# Altium footprint library Discrete_Passive.PcbLib: 311 footprints (part 4 of 20)
Each footprint in its own frame and in the unit in brackets; x right, y up, seen from the top. Pads: shape width x height; smd on the part's side, far side on the other; paste and mask are expansions set on the pad; w line width, h text height; cw(c..) or ccw(c..) is an arc to the next point about the centre after c.
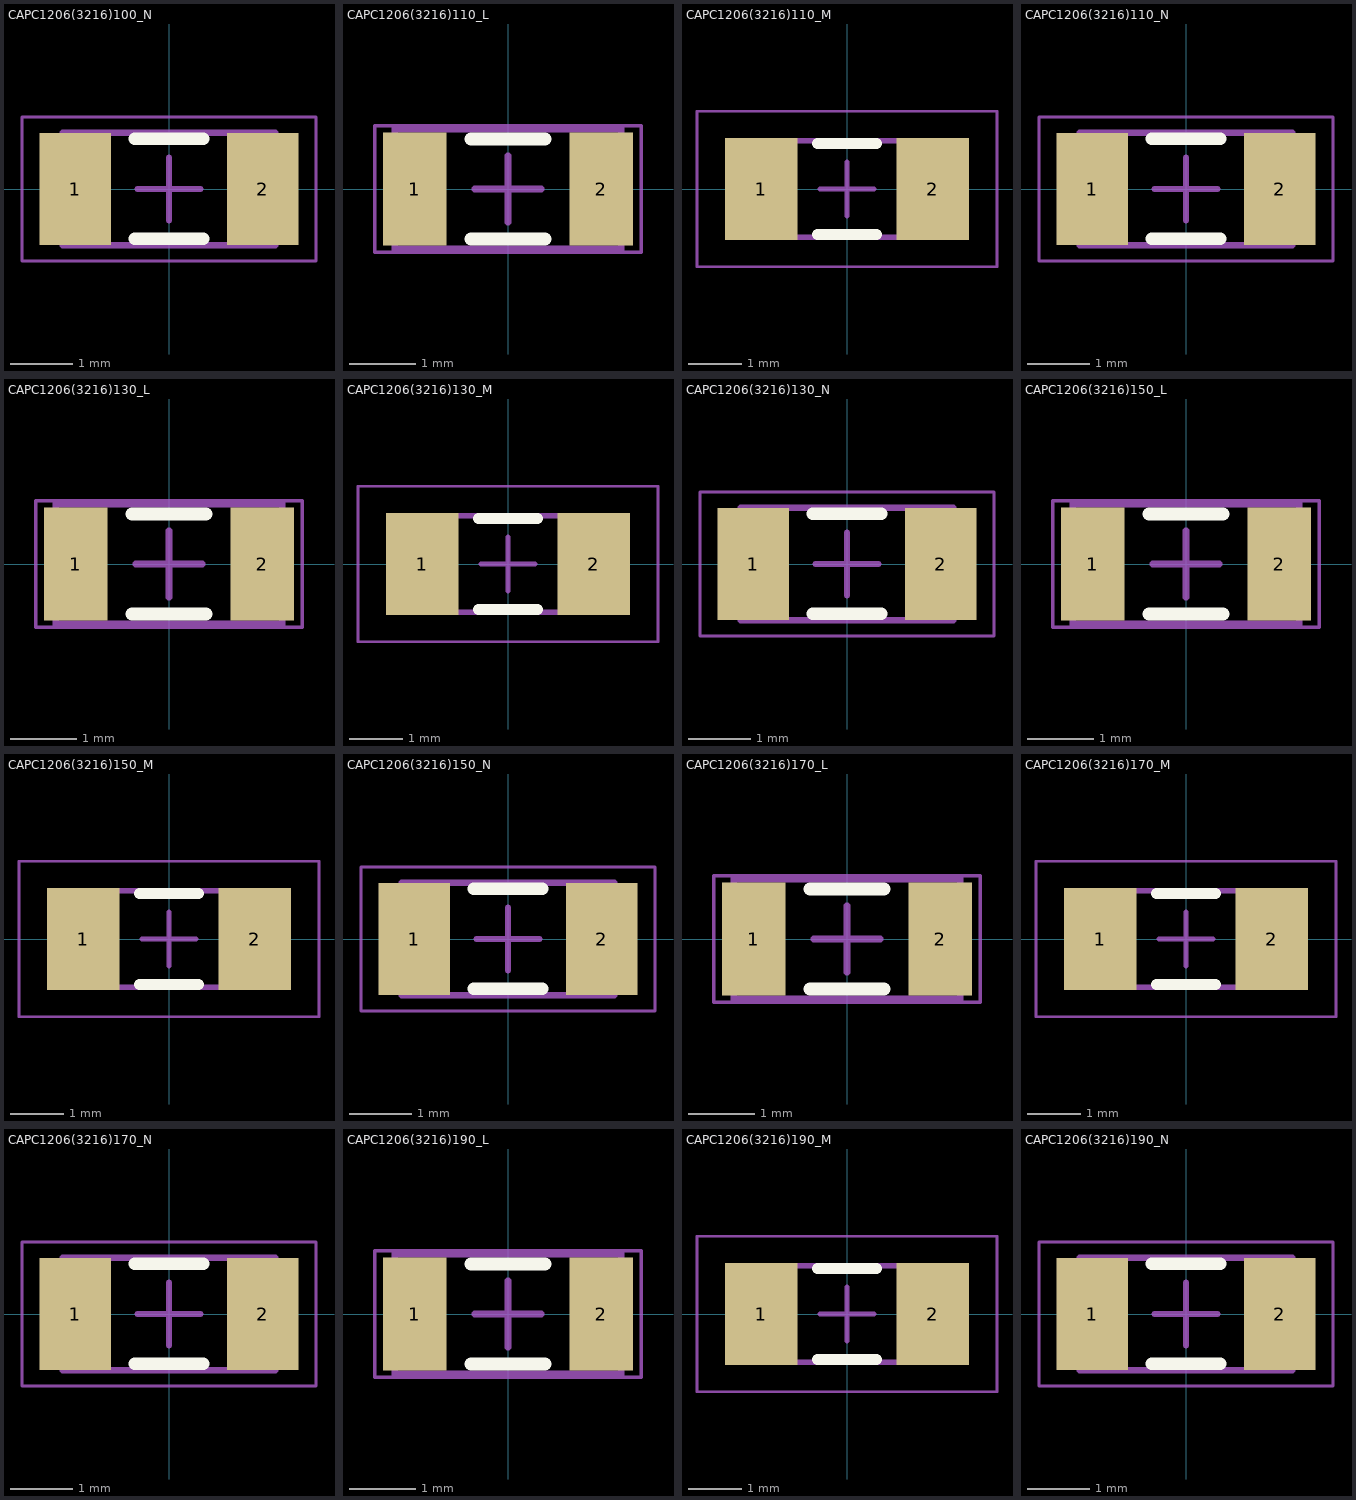
[diagram p3: the footprints below, top view; thin cyan lines are the x and y axes]

## CAPC1206(3216)100_N [mm] "Chip Capacitor, Body 3.2x1.6mm, Height 1mm, IPC Medium Density"
height 1
pads (2):
  rect 1.15x1.8 smd: 1(-1.5,0) 2(1.5,0)
Top Overlay:
  lines w0.2: -0.55,-0.8 0.55,-0.8 ; -0.55,0.8 0.55,0.8
Mechanical 13:
  lines w0.1: -1.7,-0.9 1.7,-0.9 1.7,0.9 -1.7,0.9 -1.7,-0.9
Mechanical 15:
  lines w0.05: -2.35,-1.15 2.35,-1.15 2.35,1.15 -2.35,1.15 -2.35,-1.15
  lines w0.1: -0.5,0 0.5,0 ; 0,-0.5 0,0.5
3D body: height 1, standoff 0, extent 1.2,-0.9 1.7,0.9
3D body: height 1, standoff 0, extent -1.7,-0.9 -1.2,0.9
3D body: height 1, standoff 0, extent -1.2,-0.9 1.2,0.9

## CAPC1206(3216)110_L [mm] "Chip Capacitor, Body 3.2x1.6mm, Height 1.1mm, IPC High Density"
height 1.1
pads (2):
  rect 0.95x1.7 smd: 1(-1.4,0) 2(1.4,0)
Top Overlay:
  lines w0.2: -0.55,-0.75 0.55,-0.75 ; -0.55,0.75 0.55,0.75
Mechanical 13:
  lines w0.1: -1.7,-0.9 1.7,-0.9 1.7,0.9 -1.7,0.9 -1.7,-0.9
Mechanical 15:
  lines w0.05: -2,-0.95 2,-0.95 2,0.95 -2,0.95 -2,-0.95
  lines w0.1: -0.5,0 0.5,0 ; 0,-0.5 0,0.5
3D body: height 1.1, standoff 0, extent 1.2,-0.9 1.7,0.9
3D body: height 1.1, standoff 0, extent -1.7,-0.9 -1.2,0.9
3D body: height 1.1, standoff 0, extent -1.2,-0.9 1.2,0.9

## CAPC1206(3216)110_M [mm] "Chip Capacitor, Body 3.2x1.6mm, Height 1.1mm, IPC Low Density"
height 1.1
pads (2):
  rect 1.35x1.9 smd: 1(-1.6,0) 2(1.6,0)
Top Overlay:
  lines w0.2: -0.55,-0.85 0.55,-0.85 ; -0.55,0.85 0.55,0.85
Mechanical 13:
  lines w0.1: -1.7,-0.9 1.7,-0.9 1.7,0.9 -1.7,0.9 -1.7,-0.9
Mechanical 15:
  lines w0.05: -2.8,-1.45 2.8,-1.45 2.8,1.45 -2.8,1.45 -2.8,-1.45
  lines w0.1: -0.5,0 0.5,0 ; 0,-0.5 0,0.5
3D body: height 1.1, standoff 0, extent 1.2,-0.9 1.7,0.9
3D body: height 1.1, standoff 0, extent -1.7,-0.9 -1.2,0.9
3D body: height 1.1, standoff 0, extent -1.2,-0.9 1.2,0.9

## CAPC1206(3216)110_N [mm] "Chip Capacitor, Body 3.2x1.6mm, Height 1.1mm, IPC Medium Density"
height 1.1
pads (2):
  rect 1.15x1.8 smd: 1(-1.5,0) 2(1.5,0)
Top Overlay:
  lines w0.2: -0.55,-0.8 0.55,-0.8 ; -0.55,0.8 0.55,0.8
Mechanical 13:
  lines w0.1: -1.7,-0.9 1.7,-0.9 1.7,0.9 -1.7,0.9 -1.7,-0.9
Mechanical 15:
  lines w0.05: -2.35,-1.15 2.35,-1.15 2.35,1.15 -2.35,1.15 -2.35,-1.15
  lines w0.1: -0.5,0 0.5,0 ; 0,-0.5 0,0.5
3D body: height 1.1, standoff 0, extent 1.2,-0.9 1.7,0.9
3D body: height 1.1, standoff 0, extent -1.7,-0.9 -1.2,0.9
3D body: height 1.1, standoff 0, extent -1.2,-0.9 1.2,0.9

## CAPC1206(3216)130_L [mm] "Chip Capacitor, Body 3.2x1.6mm, Height 1.3mm, IPC High Density"
height 1.3
pads (2):
  rect 0.95x1.7 smd: 1(-1.4,0) 2(1.4,0)
Top Overlay:
  lines w0.2: -0.55,-0.75 0.55,-0.75 ; -0.55,0.75 0.55,0.75
Mechanical 13:
  lines w0.1: -1.7,-0.9 1.7,-0.9 1.7,0.9 -1.7,0.9 -1.7,-0.9
Mechanical 15:
  lines w0.05: -2,-0.95 2,-0.95 2,0.95 -2,0.95 -2,-0.95
  lines w0.1: -0.5,0 0.5,0 ; 0,-0.5 0,0.5
3D body: height 1.3, standoff 0, extent 1.2,-0.9 1.7,0.9
3D body: height 1.3, standoff 0, extent -1.7,-0.9 -1.2,0.9
3D body: height 1.3, standoff 0, extent -1.2,-0.9 1.2,0.9

## CAPC1206(3216)130_M [mm] "Chip Capacitor, Body 3.2x1.6mm, Height 1.3mm, IPC Low Density"
height 1.3
pads (2):
  rect 1.35x1.9 smd: 1(-1.6,0) 2(1.6,0)
Top Overlay:
  lines w0.2: -0.55,-0.85 0.55,-0.85 ; -0.55,0.85 0.55,0.85
Mechanical 13:
  lines w0.1: -1.7,-0.9 1.7,-0.9 1.7,0.9 -1.7,0.9 -1.7,-0.9
Mechanical 15:
  lines w0.05: -2.8,-1.45 2.8,-1.45 2.8,1.45 -2.8,1.45 -2.8,-1.45
  lines w0.1: -0.5,0 0.5,0 ; 0,-0.5 0,0.5
3D body: height 1.3, standoff 0, extent 1.2,-0.9 1.7,0.9
3D body: height 1.3, standoff 0, extent -1.7,-0.9 -1.2,0.9
3D body: height 1.3, standoff 0, extent -1.2,-0.9 1.2,0.9

## CAPC1206(3216)130_N [mm] "Chip Capacitor, Body 3.2x1.6mm, Height 1.3mm, IPC Medium Density"
height 1.3
pads (2):
  rect 1.15x1.8 smd: 1(-1.5,0) 2(1.5,0)
Top Overlay:
  lines w0.2: -0.55,-0.8 0.55,-0.8 ; -0.55,0.8 0.55,0.8
Mechanical 13:
  lines w0.1: -1.7,-0.9 1.7,-0.9 1.7,0.9 -1.7,0.9 -1.7,-0.9
Mechanical 15:
  lines w0.05: -2.35,-1.15 2.35,-1.15 2.35,1.15 -2.35,1.15 -2.35,-1.15
  lines w0.1: -0.5,0 0.5,0 ; 0,-0.5 0,0.5
3D body: height 1.3, standoff 0, extent 1.2,-0.9 1.7,0.9
3D body: height 1.3, standoff 0, extent -1.7,-0.9 -1.2,0.9
3D body: height 1.3, standoff 0, extent -1.2,-0.9 1.2,0.9

## CAPC1206(3216)150_L [mm] "Chip Capacitor, Body 3.2x1.6mm, Height 1.5mm, IPC High Density"
height 1.5
pads (2):
  rect 0.95x1.7 smd: 1(-1.4,0) 2(1.4,0)
Top Overlay:
  lines w0.2: -0.55,-0.75 0.55,-0.75 ; -0.55,0.75 0.55,0.75
Mechanical 13:
  lines w0.1: -1.7,-0.9 1.7,-0.9 1.7,0.9 -1.7,0.9 -1.7,-0.9
Mechanical 15:
  lines w0.05: -2,-0.95 2,-0.95 2,0.95 -2,0.95 -2,-0.95
  lines w0.1: -0.5,0 0.5,0 ; 0,-0.5 0,0.5
3D body: height 1.5, standoff 0, extent 1.2,-0.9 1.7,0.9
3D body: height 1.5, standoff 0, extent -1.7,-0.9 -1.2,0.9
3D body: height 1.5, standoff 0, extent -1.2,-0.9 1.2,0.9

## CAPC1206(3216)150_M [mm] "Chip Capacitor, Body 3.2x1.6mm, Height 1.5mm, IPC Low Density"
height 1.5
pads (2):
  rect 1.35x1.9 smd: 1(-1.6,0) 2(1.6,0)
Top Overlay:
  lines w0.2: -0.55,-0.85 0.55,-0.85 ; -0.55,0.85 0.55,0.85
Mechanical 13:
  lines w0.1: -1.7,-0.9 1.7,-0.9 1.7,0.9 -1.7,0.9 -1.7,-0.9
Mechanical 15:
  lines w0.05: -2.8,-1.45 2.8,-1.45 2.8,1.45 -2.8,1.45 -2.8,-1.45
  lines w0.1: -0.5,0 0.5,0 ; 0,-0.5 0,0.5
3D body: height 1.5, standoff 0, extent 1.2,-0.9 1.7,0.9
3D body: height 1.5, standoff 0, extent -1.7,-0.9 -1.2,0.9
3D body: height 1.5, standoff 0, extent -1.2,-0.9 1.2,0.9

## CAPC1206(3216)150_N [mm] "Chip Capacitor, Body 3.2x1.6mm, Height 1.5mm, IPC Medium Density"
height 1.5
pads (2):
  rect 1.15x1.8 smd: 1(-1.5,0) 2(1.5,0)
Top Overlay:
  lines w0.2: -0.55,-0.8 0.55,-0.8 ; -0.55,0.8 0.55,0.8
Mechanical 13:
  lines w0.1: -1.7,-0.9 1.7,-0.9 1.7,0.9 -1.7,0.9 -1.7,-0.9
Mechanical 15:
  lines w0.05: -2.35,-1.15 2.35,-1.15 2.35,1.15 -2.35,1.15 -2.35,-1.15
  lines w0.1: -0.5,0 0.5,0 ; 0,-0.5 0,0.5
3D body: height 1.5, standoff 0, extent 1.2,-0.9 1.7,0.9
3D body: height 1.5, standoff 0, extent -1.7,-0.9 -1.2,0.9
3D body: height 1.5, standoff 0, extent -1.2,-0.9 1.2,0.9

## CAPC1206(3216)170_L [mm] "Chip Capacitor, Body 3.2x1.6mm, Height 1.7mm, IPC High Density"
height 1.7
pads (2):
  rect 0.95x1.7 smd: 1(-1.4,0) 2(1.4,0)
Top Overlay:
  lines w0.2: -0.55,-0.75 0.55,-0.75 ; -0.55,0.75 0.55,0.75
Mechanical 13:
  lines w0.1: -1.7,-0.9 1.7,-0.9 1.7,0.9 -1.7,0.9 -1.7,-0.9
Mechanical 15:
  lines w0.05: -2,-0.95 2,-0.95 2,0.95 -2,0.95 -2,-0.95
  lines w0.1: -0.5,0 0.5,0 ; 0,-0.5 0,0.5
3D body: height 1.7, standoff 0, extent 1.2,-0.9 1.7,0.9
3D body: height 1.7, standoff 0, extent -1.7,-0.9 -1.2,0.9
3D body: height 1.7, standoff 0, extent -1.2,-0.9 1.2,0.9

## CAPC1206(3216)170_M [mm] "Chip Capacitor, Body 3.2x1.6mm, Height 1.7mm, IPC Low Density"
height 1.7
pads (2):
  rect 1.35x1.9 smd: 1(-1.6,0) 2(1.6,0)
Top Overlay:
  lines w0.2: -0.55,-0.85 0.55,-0.85 ; -0.55,0.85 0.55,0.85
Mechanical 13:
  lines w0.1: -1.7,-0.9 1.7,-0.9 1.7,0.9 -1.7,0.9 -1.7,-0.9
Mechanical 15:
  lines w0.05: -2.8,-1.45 2.8,-1.45 2.8,1.45 -2.8,1.45 -2.8,-1.45
  lines w0.1: -0.5,0 0.5,0 ; 0,-0.5 0,0.5
3D body: height 1.7, standoff 0, extent 1.2,-0.9 1.7,0.9
3D body: height 1.7, standoff 0, extent -1.7,-0.9 -1.2,0.9
3D body: height 1.7, standoff 0, extent -1.2,-0.9 1.2,0.9

## CAPC1206(3216)170_N [mm] "Chip Capacitor, Body 3.2x1.6mm, Height 1.7mm, IPC Medium Density"
height 1.7
pads (2):
  rect 1.15x1.8 smd: 1(-1.5,0) 2(1.5,0)
Top Overlay:
  lines w0.2: -0.55,-0.8 0.55,-0.8 ; -0.55,0.8 0.55,0.8
Mechanical 13:
  lines w0.1: -1.7,-0.9 1.7,-0.9 1.7,0.9 -1.7,0.9 -1.7,-0.9
Mechanical 15:
  lines w0.05: -2.35,-1.15 2.35,-1.15 2.35,1.15 -2.35,1.15 -2.35,-1.15
  lines w0.1: -0.5,0 0.5,0 ; 0,-0.5 0,0.5
3D body: height 1.7, standoff 0, extent 1.2,-0.9 1.7,0.9
3D body: height 1.7, standoff 0, extent -1.7,-0.9 -1.2,0.9
3D body: height 1.7, standoff 0, extent -1.2,-0.9 1.2,0.9

## CAPC1206(3216)190_L [mm] "Chip Capacitor, Body 3.2x1.6mm, Height 1.9mm, IPC High Density"
height 1.9
pads (2):
  rect 0.95x1.7 smd: 1(-1.4,0) 2(1.4,0)
Top Overlay:
  lines w0.2: -0.55,-0.75 0.55,-0.75 ; -0.55,0.75 0.55,0.75
Mechanical 13:
  lines w0.1: -1.7,-0.9 1.7,-0.9 1.7,0.9 -1.7,0.9 -1.7,-0.9
Mechanical 15:
  lines w0.05: -2,-0.95 2,-0.95 2,0.95 -2,0.95 -2,-0.95
  lines w0.1: -0.5,0 0.5,0 ; 0,-0.5 0,0.5
3D body: height 1.9, standoff 0, extent 1.2,-0.9 1.7,0.9
3D body: height 1.9, standoff 0, extent -1.7,-0.9 -1.2,0.9
3D body: height 1.9, standoff 0, extent -1.2,-0.9 1.2,0.9

## CAPC1206(3216)190_M [mm] "Chip Capacitor, Body 3.2x1.6mm, Height 1.9mm, IPC Low Density"
height 1.9
pads (2):
  rect 1.35x1.9 smd: 1(-1.6,0) 2(1.6,0)
Top Overlay:
  lines w0.2: -0.55,-0.85 0.55,-0.85 ; -0.55,0.85 0.55,0.85
Mechanical 13:
  lines w0.1: -1.7,-0.9 1.7,-0.9 1.7,0.9 -1.7,0.9 -1.7,-0.9
Mechanical 15:
  lines w0.05: -2.8,-1.45 2.8,-1.45 2.8,1.45 -2.8,1.45 -2.8,-1.45
  lines w0.1: -0.5,0 0.5,0 ; 0,-0.5 0,0.5
3D body: height 1.9, standoff 0, extent 1.2,-0.9 1.7,0.9
3D body: height 1.9, standoff 0, extent -1.7,-0.9 -1.2,0.9
3D body: height 1.9, standoff 0, extent -1.2,-0.9 1.2,0.9

## CAPC1206(3216)190_N [mm] "Chip Capacitor, Body 3.2x1.6mm, Height 1.9mm, IPC Medium Density"
height 1.9
pads (2):
  rect 1.15x1.8 smd: 1(-1.5,0) 2(1.5,0)
Top Overlay:
  lines w0.2: -0.55,-0.8 0.55,-0.8 ; -0.55,0.8 0.55,0.8
Mechanical 13:
  lines w0.1: -1.7,-0.9 1.7,-0.9 1.7,0.9 -1.7,0.9 -1.7,-0.9
Mechanical 15:
  lines w0.05: -2.35,-1.15 2.35,-1.15 2.35,1.15 -2.35,1.15 -2.35,-1.15
  lines w0.1: -0.5,0 0.5,0 ; 0,-0.5 0,0.5
3D body: height 1.9, standoff 0, extent 1.2,-0.9 1.7,0.9
3D body: height 1.9, standoff 0, extent -1.7,-0.9 -1.2,0.9
3D body: height 1.9, standoff 0, extent -1.2,-0.9 1.2,0.9